# Altium footprint library PAL.PcbLib: 209 footprints (part 14 of 14)
Each footprint in its own frame and in the unit in brackets; x right, y up, seen from the top. Pads: shape width x height; smd on the part's side, far side on the other; paste and mask are expansions set on the pad; w line width, h text height; cw(c..) or ccw(c..) is an arc to the next point about the centre after c.
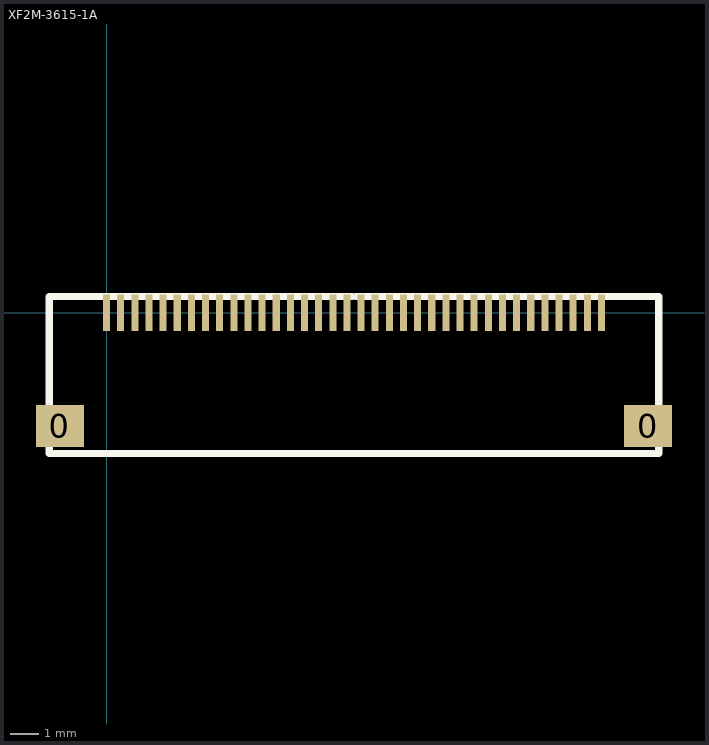
[diagram p13: the footprint, top view; thin cyan lines are the x and y axes]

## XF2M-3615-1A [mm]
pads (38):
  rect 1.7x1.5 smd: 0(-1.65,-4) 0(19.15,-4)
  rect 0.25x1.3 smd: 1(0,0) 2(0.5,0) 3(1,0) 4(1.5,0) 5(2,0) 6(2.5,0) 7(3,0) 8(3.5,0) 9(4,0) 10(4.5,0) 11(5,0) 12(5.5,0) 13(6,0) 14(6.5,0) 15(7,0) 16(7.5,0) 17(8,0) 18(8.5,0) 19(9,0) 20(9.5,0) 21(10,0) 22(10.5,0) 23(11,0) 24(11.5,0) 25(12,0) 26(12.5,0) 27(13,0) 28(13.5,0) 29(14,0) 30(14.5,0) 31(15,0) 32(15.5,0) 33(16,0) 34(16.5,0) 35(17,0) 36(17.5,0)
Top Overlay:
  lines w0.254: 8.7,0.575 -2.025,0.575 -2.025,-4.975 8.75,-4.975 19.525,-4.975 19.525,0.575 8.8,0.575